# EAGLE library part 7508113417 (library WE-OLTI)
WE-OLTI Offline Flyback Transformers Characteristics Nominal input voltage: 85–265 VAC (120–375 VDC) Small size Low leakage inductance Multiple-output options Operating temperature: −40 °C to +125 °C Isolation Voltage: 2 kVAC to 5 kVAC Options for fixed frequency or quasi-resonant mode operation Most products meet reinforced insulation Applications Industrial controls USB chargers Utility metering devices Process controls Factory automation Security systems Garage door opener auxiliary supplies Home appliances Especially designed for several ICs from Texas Instruments <https://www.we-online.com/components/media/o814034v209%20UtOLTI%20Group%20CGI.jpg> Details see: www.we-online.com/en/components/products/WE-OLTI <www.we-online.com/catalog/WE-OLTI/?utm_source=eagle_model&utm_medium=description_link&utm_campaign=eisos_eagle> Created by Ella Wu 2025-02-06 2025 (C) Wurth Elektronik
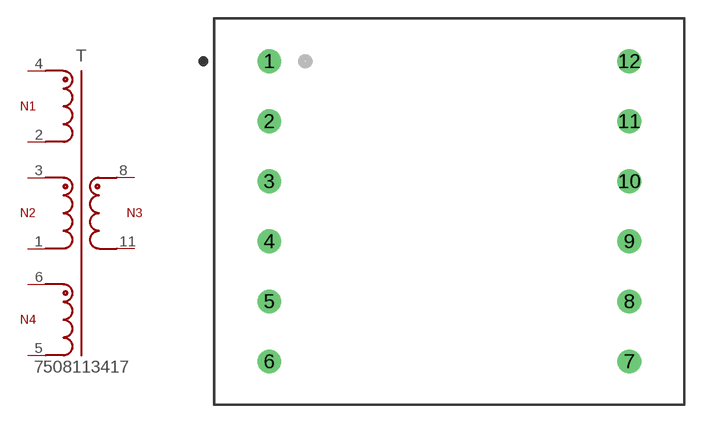
[diagram p4: symbol with the pads of WE-OLTI_ER28/17_L32W39H36; footprint WE-OLTI_ER28/17_L32W39H36]

Designator prefix T

## 7508113417 (DATASHEET-URL: https://www.we-online.com/redexpert/spec/7508113417?ae; FSWITCH: 30 - 130kHz; HEIGHT: 36mm; IOUT1: 3850mA; ISAT: 9.1A; L: 140uH; LENGTH: 32mm; MOUNT: THT; N: 3.25:1:0.58; PART-NUMBER: 7508113417; SIZE: ER28/17; VALUE: 140uH; VAUX: 11V; VIN: 64 - 265 V (AC); VOUT1: 19V; VT: 3000V(AC); WIDTH: 39mm)  [WE-OLTI_ER28/17_L32W39H36]
1  1  pas
2  2  pas
3  3  pas
4  4  pas
5  5  pas
6  6  pas
8  8  pas
11  11  pas

## Footprint WE-OLTI_ER28/17_L32W39H36 (pad centres in mm)
WE-OLTI Offline Flyback Transformers Size: ER28/17,THT,12pins LXWXH=32X39X36mm Bobbin: 070-5652
drill 1.32: 1 -15,12.5; 2 -15,7.5; 3 -15,2.5; 4 -15,-2.5; 5 -15,-7.5; 6 -15,-12.5; 7 15,-12.5; 8 15,-7.5; 9 15,-2.5; 10 15,2.5; 11 15,7.5; 12 15,12.5